# Altium schematic symbol library Inductors.SchLib: 19 symbols
Pins are listed as number, name and electrical type; pins without a type are passive.

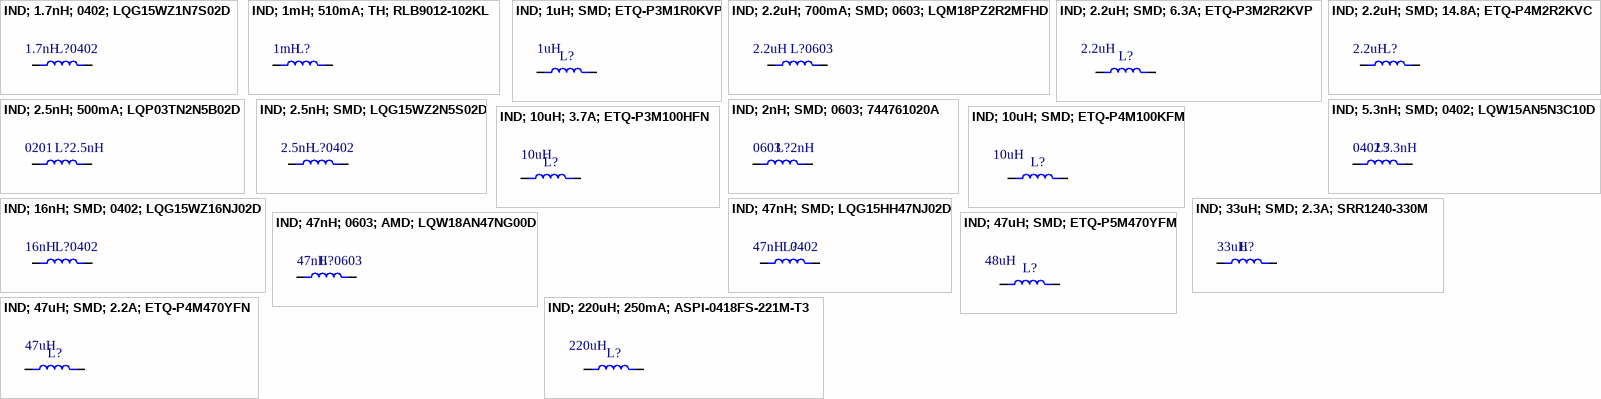
[diagram p0: symbols IND; 1.7nH; 0402; LQG15WZ1N7S02D to IND; 220uH; 250mA; ASPI-0418FS-221M-T3]

## IND; 1.7nH; 0402; LQG15WZ1N7S02D
designator L?, comment value 1.7nH  Package: 0402  (hidden comment: 1.7 nH Unshielded Multilayer Inductor 1 A 40mOhm Max 0402 (1005 Metric))
Inductor Chip 1.7nH 0.3nH Tolerance 2-Pin 0402 Paper T/R; Manufacturer: Murata; Manufacturer Part Number: LQG15WZ1N7S02D; DC Resistance (DCR): 40mR; Self Resonant Frequency: 10GHz; Test Frequency: 100MHz; Supplier: Mouser; Supplier Part Number: 81-LQG15WZ1N7S02D; RoHS: Yes; Category: Fixed Inductors; Stock: 8900; Pricing: 1=0.12, 10=0.078, 50=0.078, 100=0.061, 1000=0.048, 10000=0.04 (USD); Mounting Technology: Surface Mount; Case/Package: 0402; Min Operating Temperature: -55°C; Max Operating Temperature: 125°C; Series: LQG15; Shielding: Unshielded; Ratings: AEC-Q200; RoHS Compliant: Yes; ComponentLink1URL: https://search.murata.co.jp/Ceramy/image/img/P02/JELF243B-9117.pdf?src-supplier=Digikey; ComponentLink1Description: https://search.murata.co.jp/Ceramy/image/img/P02/JELF243B-9117.pdf?src-supplier=Digikey; ComponentLink2URL: https://datasheet.octopart.com/LQG15WZ1N7S02D-Murata-datasheet-150573548.pdf?src-supplier=Newark; ComponentLink2Description: https://datasheet.octopart.com/LQG15WZ1N7S02D-Murata-datasheet-150573548.pdf?src-supplier=Newark
footprint SMD-0402-HxLxW-0.55x1.0x0.5-ME
pins: 1, 2

## IND; 1mH; 510mA; TH; RLB9012-102KL
designator L?, comment value 1mH  (hidden comment: 1 mH Unshielded Drum Core, Wirewound Inductor 510 mA 2.9Ohm Max Radial, Vertical Cylinder)
Inductor Power Wirewound 1000uH 10% 1KHz 20Q-Factor Ferrite 0.51A 2.9Ohm DCR RDL Bag; Manufacturer: Bourns; Manufacturer Part Number: RLB9012-102KL; Q Factor: 20; Self Resonant Frequency: 1.3MHz; Max DC Current: 510mA; DC Resistance (DCR): 2.9R; Lead Diameter: 0.65mm; Designer: TVBac; Supplier: Digikey; Supplier Part Number: RLB9012-102KL-ND; RoHS: Yes; Category: Fixed Inductors; Stock: 114451; Pricing: 1=0.56, 10=0.436, 25=0.3944, 40=0.37475, 200=0.3138, 400=0.29065, 600=0.27787, 1000=0.26253, 2400=0.25613 (USD); Mounting Technology: Through Hole,Radial; Case/Package: Radial; Pins: 2; Core Material: Ferrite; Min Operating Temperature: -55°C; Max Operating Temperature: 125°C; Packaging: Bulk; Tolerance: 10%; Inductance Tolerance: 10%; Package Quantity: 200; Shielding: Unshielded; Termination: Radial; Test Frequency: 1kHz; RMS Current (Irms): 510mA; DC Current: 510mA; Lead/Base Style: Radial; Series: RLB9012; Diameter: 9mm; Height: 12.2mm; Lead Pitch: 5mm; Radiation Hardening: No; Reach SVHC Compliant: No; Military Standard: Not; RoHS Compliant: Yes; ComponentLink1URL: https://datasheet.ciiva.com/11797/0900766b80fa59a1-11797324.pdf?src-supplier=Rs; ComponentLink1Description: https://datasheet.ciiva.com/11797/0900766b80fa59a1-11797324.pdf?src-supplier=Rs; ComponentLink2URL: https://datasheet.ciiva.com/1071/rlb9012-1071294.pdf?src-supplier=Digikey; ComponentLink2Description: https://datasheet.ciiva.com/1071/rlb9012-1071294.pdf?src-supplier=Digikey; ComponentLink3URL: https://datasheet.ciiva.com/3077/rlb9012-3077232.pdf?src-supplier=Avnet; ComponentLink3Description: https://datasheet.ciiva.com/3077/rlb9012-3077232.pdf?src-supplier=Avnet; ComponentLink4URL: https://datasheet.ciiva.com/30249/rlb9012-30249013.pdf?src-supplier=Onlinecomponents.com; ComponentLink4Description: https://datasheet.ciiva.com/30249/rlb9012-30249013.pdf?src-supplier=Onlinecomponents.com; ComponentLink5URL: https://datasheet.ciiva.com/15225/getdatasheetpartid-707785-15225495.pdf?src-supplier=Verical; ComponentLink5Description: https://datasheet.ciiva.com/15225/getdatasheetpartid-707785-15225495.pdf?src-supplier=Verical; ComponentLink6Description: Link Digikey; ComponentLink6URL: https://www.digikey.com/en/products/detail/bourns-inc/RLB9012-102KL/1969616
footprint TH-IND-HxD-12.2x9.0-BI
pins: 1, 2

## IND; 1uH; SMD; ETQ-P3M1R0KVP
designator L?, comment value 1uH  (hidden comment: 1 µH Shielded Drum Core, Wirewound Inductor 9 A 10.56mOhm Max 2-SMD, J-Lead)
Ind Chip Power Choke Coil Shielded 1uH 20% 100KHz Metal 9A Emboss T/R; Manufacturer: Panasonic; Manufacturer Part Number: ETQ-P3M1R0KVP; RMS Current (Irms): 7.5A; Saturation Current: 14.1A; Designer: TVBac; Supplier: Newark; Supplier Part Number: 90Y9894; RoHS: Yes; Category: Inductors; Stock: 3929; Pricing: 10=0.63, 100=0.483, 500=0.439, 5000=0.382, 10000=0.356, 25000=0.27 (USD); Mounting Technology: Surface Mount; Packaging: Cut Tape; Inductance Tolerance: 20%; RoHS Compliant: Yes; Reach SVHC Compliant: Unknown; ComponentLink1URL: https://datasheet.octopart.com/ETQP3M1R0KVP-Panasonic-datasheet-81843036.pdf?src-supplier=Farnell; ComponentLink1Description: https://datasheet.octopart.com/ETQP3M1R0KVP-Panasonic-datasheet-81843036.pdf?src-supplier=Farnell; ComponentLink2URL: https://datasheet.octopart.com/ETQP3M1R0KVP-Panasonic-datasheet-66615529.pdf?src-supplier=Element14; ComponentLink2Description: https://datasheet.octopart.com/ETQP3M1R0KVP-Panasonic-datasheet-66615529.pdf?src-supplier=Element14; ComponentLink3URL: https://industrial.panasonic.com/cdbs/www-data/pdf/AGL0000/AGL0000C63.pdf?src-supplier=Digikey; ComponentLink3Description: https://industrial.panasonic.com/cdbs/www-data/pdf/AGL0000/AGL0000C63.pdf?src-supplier=Digikey; ComponentLink4URL: https://datasheet.octopart.com/ETQP3M1R0KVP-Panasonic-datasheet-136412728.pdf?src-supplier=Newark; ComponentLink4Description: https://datasheet.octopart.com/ETQP3M1R0KVP-Panasonic-datasheet-136412728.pdf?src-supplier=Newark; ComponentLink5URL: https://datasheet.octopart.com/ETQ-P3M1R0KVP-Panasonic-datasheet-65850535.pdf?src-supplier=Future+Electronics; ComponentLink5Description: https://datasheet.octopart.com/ETQ-P3M1R0KVP-Panasonic-datasheet-65850535.pdf?src-supplier=Future+Electronics; ComponentLink6URL: https://datasheet.octopart.com/ETQP3M1R0KVP-Panasonic-datasheet-137675050.pdf?src-supplier=TME; ComponentLink6Description: https://datasheet.octopart.com/ETQP3M1R0KVP-Panasonic-datasheet-137675050.pdf?src-supplier=TME; ComponentLink7Description: Link Digikey; ComponentLink7URL: https://www.digikey.com/en/products/detail/panasonic-electronic-components/ETQ-P3M1R0KVP/6150572
footprint SMD-HxLxW-3.0x5.5x5.0-PEC
pins: 1, 2

## IND; 2.2uH; 700mA; SMD; 0603; LQM18PZ2R2MFHD
designator L?, comment value 2.2uH  Package: 0603  (hidden comment: 2.2 µH Shielded Multilayer Inductor 700 mA 470mOhm Max 0603 (1608 Metric))
Inductor Power Chip Shielded Multi-Layer 2.2uH 20% 1MHz Ferrite 0.7A 0.47Ohm DCR 0603 Automotive T/R; Manufacturer: Murata; Manufacturer Part Number: LQM18PZ2R2MFHD; Core Material: Ferrite,Metal; Current Rating: 1.6A; Saturation Current: 300mA; DC Resistance (DCR): 470mR; Self Resonant Frequency: 80MHz; Supplier: Mouser; Supplier Part Number: 81-LQM18PZ2R2MFHD; RoHS: Yes; Category: Fixed Inductors; Stock: 9565; Pricing: 1=0.3, 10=0.194, 50=0.194, 100=0.14, 1000=0.138, 10000=0.093 (USD); Mounting Technology: Surface Mount; Case/Package: 0603; Case Code (Imperial): 0603; Case Code (Metric): 1608; Min Operating Temperature: -55°C; Max Operating Temperature: 125°C; Packaging: Cut Tape; Tolerance: 20%; Shielding: Shielded; Test Frequency: 1MHz; Series: LQM18; Ratings: AEC-Q200; RoHS Compliant: Yes; ComponentLink1URL: http://search.murata.co.jp/Ceramy/image/img/P02/JELF243B-9122.pdf?src-supplier=Digikey; ComponentLink1Description: http://search.murata.co.jp/Ceramy/image/img/P02/JELF243B-9122.pdf?src-supplier=Digikey
footprint SMD-0603-HxLxW-0.95x1.6x0.8-ME
pins: 1, 2

## IND; 2.2uH; SMD; 6.3A; ETQ-P3M2R2KVP
designator L?, comment value 2.2uH  (hidden comment: 2.2 µH Shielded Drum Core, Wirewound Inductor 6.3 A 22mOhm Max 2-SMD, J-Lead)
Ind Power Shielded Wirewound 2.2uH 20% 100KHz Metal 6.3A (5.5 X 5 X 3mm) Emboss T/R; Manufacturer: Panasonic; Manufacturer Part Number: ETQ-P3M2R2KVP; Core Material: Metal,Composite; RMS Current (Irms): 5.2A; Saturation Current: 10.1A; DC Resistance (DCR): 22mR; Designer: TVBac; Supplier: Digikey; Supplier Part Number: P19759CT-ND; RoHS: Yes; Category: Fixed Inductors; Stock: 6203; Pricing: 1=0.89, 10=0.752, 25=0.6836, 50=0.6426, 100=0.5333, 250=0.49224, 500=0.4649, 1000=0.42387 (USD); Mounting Technology: Surface Mount; Case/Package: SMD/SMT; Min Operating Temperature: -55°C; Max Operating Temperature: 155°C; Packaging: Cut Tape; Inductance Tolerance: 20%; Series: PCC-M0530M; Tolerance: 20%; Shielding: Shielded; Test Frequency: 100kHz; Ratings: AEC-Q200; RoHS Compliant: Yes; Reach SVHC Compliant: Unknown; ComponentLink1URL: http://www.farnell.com/datasheets/2820815.pdf?src-supplier=Farnell; ComponentLink1Description: http://www.farnell.com/datasheets/2820815.pdf?src-supplier=Farnell; ComponentLink2URL: https://industrial.panasonic.com/cdbs/www-data/pdf/AGL0000/AGL0000C63.pdf?src-supplier=Digikey; ComponentLink2Description: https://industrial.panasonic.com/cdbs/www-data/pdf/AGL0000/AGL0000C63.pdf?src-supplier=Digikey; ComponentLink3URL: http://www.farnell.com/datasheets/2820815.pdf?src-supplier=Newark; ComponentLink3Description: http://www.farnell.com/datasheets/2820815.pdf?src-supplier=Newark; ComponentLink4URL: https://datasheet.octopart.com/ETQP3M2R2KVP-Panasonic-datasheet-98950113.pdf?src-supplier=Newark; ComponentLink4Description: https://datasheet.octopart.com/ETQP3M2R2KVP-Panasonic-datasheet-98950113.pdf?src-supplier=Newark; ComponentLink5URL: http://www.farnell.com/datasheets/2144948.pdf?src-supplier=Element14; ComponentLink5Description: http://www.farnell.com/datasheets/2144948.pdf?src-supplier=Element14; ComponentLink6URL: https://datasheet.octopart.com/ETQP3M2R2KVP-Panasonic-datasheet-65850535.pdf?src-supplier=Future+Electronics; ComponentLink6Description: https://datasheet.octopart.com/ETQP3M2R2KVP-Panasonic-datasheet-65850535.pdf?src-supplier=Future+Electronics; ComponentLink7URL: https://datasheet.octopart.com/ETQP3M2R2KVP-Panasonic-datasheet-137675050.pdf?src-supplier=TME; ComponentLink7Description: https://datasheet.octopart.com/ETQP3M2R2KVP-Panasonic-datasheet-137675050.pdf?src-supplier=TME; ComponentLink8Description: Link Digikey; ComponentLink8URL: https://www.digikey.com/en/products/detail/panasonic-electronic-components/ETQ-P3M2R2KVP/6134777
footprint SMD-HxLxW-3.0x5.5x5.0-PEC
pins: 1, 2

## IND; 2.2uH; SMD; 14.8A; ETQ-P4M2R2KVC
designator L?, comment value 2.2uH  (hidden comment: 2.2 µH Shielded Drum Core, Wirewound Inductor 14.8 A 7.48mOhm Max 2-SMD, J-Lead)
Power Choke Shielded Wirewound 2.2uH 20% 100KHz Metal 14.8A 0.00748Ohm DCR Automotive T/R; Manufacturer: Panasonic; Manufacturer Part Number: ETQ-P4M2R2KVC; RMS Current (Irms): 12.1A; Saturation Current: 21A; Supplier: Mouser; Supplier Part Number: 667-ETQ-P4M2R2KVC; RoHS: Yes; Category: Fixed Inductors; Stock: 4988; Pricing: 1=0.84, 10=0.688, 50=0.6, 100=0.56, 1000=0.413, 10000=0.391 (USD); Mounting Technology: Surface Mount; Packaging: Cut Tape; Inductance Tolerance: 20%; RoHS Compliant: Yes; Reach SVHC Compliant: Unknown; ComponentLink1URL: https://media.digikey.com/pdf/Data%20Sheets/Panasonic%20Inductors%20Coils%20Filters%20PDFs/ETQ-P_Series_NPI.pdf?src-supplier=Digikey; ComponentLink1Description: https://media.digikey.com/pdf/Data%20Sheets/Panasonic%20Inductors%20Coils%20Filters%20PDFs/ETQ-P_Series_NPI.pdf?src-supplier=Digikey; ComponentLink2URL: http://www.farnell.com/datasheets/2144948.pdf?src-supplier=Element14; ComponentLink2Description: http://www.farnell.com/datasheets/2144948.pdf?src-supplier=Element14; ComponentLink3URL: https://datasheet.octopart.com/ETQP4M2R2KVC-Panasonic-datasheet-137675050.pdf?src-supplier=TME; ComponentLink3Description: https://datasheet.octopart.com/ETQP4M2R2KVC-Panasonic-datasheet-137675050.pdf?src-supplier=TME
footprint SMD-HxLxW-4.010.7x10-PEC
pins: 1, 2

## IND; 2.5nH; 500mA; LQP03TN2N5B02D
designator L?, comment value 2.5nH  Package: 0201  (hidden comment: 2.5 nH Unshielded Thick Film Inductor 500 mA 200mOhm Max 0201 (0603 Metric))
Inductor RF Chip Thin Film 2.5nH 0.1nH 500MHz 14Q-Factor 500mA 200mOhm DCR 0201 Paper T/R; Manufacturer: Murata; Manufacturer Part Number: LQP03TN2N5B02D; Supplier: Mouser; Supplier Part Number: 81-LQP03TN2N5B02D; RoHS: Yes; Category: Fixed Inductors; Stock: 37510; Pricing: 1=0.1, 10=0.033, 50=0.033, 100=0.026, 1000=0.02, 10000=0.017 (USD); ComponentLink1URL: https://media.digikey.com/pdf/Data%20Sheets/Murata%20PDFs/LQP03_Series_Br.pdf?src-supplier=Digikey; ComponentLink1Description: https://media.digikey.com/pdf/Data%20Sheets/Murata%20PDFs/LQP03_Series_Br.pdf?src-supplier=Digikey; ComponentLink2URL: http://components.arrow.com/part/dataview/49903479S8870270N2606?src-supplier=Arrow+Electronics; ComponentLink2Description: http://components.arrow.com/part/dataview/49903479S8870270N2606?src-supplier=Arrow+Electronics; ComponentLink3URL: http://www.mouser.com/ds/2/281/c51e-794816.pdf?src-supplier=Mouser; ComponentLink3Description: http://www.mouser.com/ds/2/281/c51e-794816.pdf?src-supplier=Mouser; ComponentLink4URL: https://search.murata.co.jp/Ceramy/image/img/P02/JELF243C-0015.pdf?src-supplier=Digikey; ComponentLink4Description: https://search.murata.co.jp/Ceramy/image/img/P02/JELF243C-0015.pdf?src-supplier=Digikey; ComponentLink5URL: http://search.murata.co.jp/Ceramy/image/img/w_hinm/S0084E.pdf?src-supplier=Digikey; ComponentLink5Description: http://search.murata.co.jp/Ceramy/image/img/w_hinm/S0084E.pdf?src-supplier=Digikey; ComponentLink6URL: http://psearch.en.murata.com/inductor/product/LQP03TN2N5B02%23.pdf?src-supplier=Avnet; ComponentLink6Description: http://psearch.en.murata.com/inductor/product/LQP03TN2N5B02%23.pdf?src-supplier=Avnet; ComponentLink7URL: https://datasheet.octopart.com/LQP03TN2N5B02D-Murata-datasheet-14391980.pdf?src-supplier=Future+Electronics; ComponentLink7Description: https://datasheet.octopart.com/LQP03TN2N5B02D-Murata-datasheet-14391980.pdf?src-supplier=Future+Electronics; ComponentLink8URL: https://datasheet.octopart.com/LQP03TN2N5B02D-Murata-datasheet-141404629.pdf?src-supplier=TME; ComponentLink8Description: https://datasheet.octopart.com/LQP03TN2N5B02D-Murata-datasheet-141404629.pdf?src-supplier=TME; ComponentLink9URL: https://datasheet.octopart.com/LQP03TN2N5B02D-Murata-datasheet-140569417.pdf?src-supplier=Arrow.cn; ComponentLink9Description: https://datasheet.octopart.com/LQP03TN2N5B02D-Murata-datasheet-140569417.pdf?src-supplier=Arrow.cn
footprint SMD-0201-HxLxW-0.33x0.6x0.3-ME
pins: 1, 2

## IND; 2.5nH; SMD; LQG15WZ2N5S02D
designator L?, comment value 2.5nH  Package: 0402  (hidden comment: 2.5 nH Unshielded Multilayer Inductor 900 mA 70mOhm Max 0402 (1005 Metric))
Inductor Chip 2.5nH 0.3nH Tolerance 2-Pin 0402 Paper T/R; Manufacturer: Murata; Manufacturer Part Number: LQG15WZ2N5S02D; DC Resistance (DCR): 70mR; Self Resonant Frequency: 6.5GHz; Test Frequency: 100MHz; Supplier: Mouser; Supplier Part Number: 81-LQG15WZ2N5S02D; RoHS: Yes; Category: Fixed Inductors; Stock: 10191; Pricing: 1=0.12, 10=0.078, 50=0.078, 100=0.061, 1000=0.056, 10000=0.04 (USD); Mounting Technology: Surface Mount; Case/Package: 0402; Min Operating Temperature: -55°C; Max Operating Temperature: 125°C; Series: LQG15; Shielding: Unshielded; Ratings: AEC-Q200; ComponentLink1URL: https://search.murata.co.jp/Ceramy/image/img/P02/JELF243B-9117.pdf?src-supplier=Digikey; ComponentLink1Description: https://search.murata.co.jp/Ceramy/image/img/P02/JELF243B-9117.pdf?src-supplier=Digikey; ComponentLink2URL: https://datasheet.octopart.com/LQG15WZ2N5S02D-Murata-datasheet-150573576.pdf?src-supplier=Newark; ComponentLink2Description: https://datasheet.octopart.com/LQG15WZ2N5S02D-Murata-datasheet-150573576.pdf?src-supplier=Newark
footprint SMD-0402-HxLxW-0.55x1.0x0.5-ME
pins: 1, 2

## IND; 2nH; SMD; 0603; 744761020A
designator L?, comment value 2nH  Package: 0603  (hidden comment: 2 nH Unshielded Drum Core, Wirewound Inductor 700 mA 80mOhm Max 0603 (1608 Metric))
WE-KI SMT Wire Wound Ceramic Inductor; Manufacturer: Wurth Electronics; Manufacturer Part Number: 744761020A; Q Factor: 16; Frequency: 250MHz; Self Resonant Frequency: 6.9GHz; Current Rating: 700mA; DC Resistance (DCR): 80mR; Supplier: Digikey; Supplier Part Number: 732-744761020ACT-ND; RoHS: Yes; Category: Fixed Inductors; Stock: 5587; Pricing: 1=0.27, 10=0.238, 100=0.2187, 500=0.1998, 1000=0.1854 (USD); Mounting Technology: Surface Mount; Case/Package: 0603; Pins: 2; Weight: 0.03g; Case Code (Metric): 1608; Case Code (Imperial): 0603; Material: Ceramic; Core Material: Ceramic; Min Operating Temperature: -40°C; Max Operating Temperature: 125°C; Packaging: Cut Tape; Max DC Current: 700mA; Test Frequency: 250MHz; ESR: 80mR; Series: WE-KI; Sample Rate (Hz): 250MHz; Shielding: Unshielded; Length: 1.6mm; Width: 1.05mm; Height: 1.05mm; Depth: 1.05mm; RoHS Compliant: Yes; Reach SVHC Compliant: Unknown; ComponentLink1URL: https://datasheet.ciiva.com/11803/0900766b80f8890c-11803546.pdf?src-supplier=Rs; ComponentLink1Description: https://datasheet.ciiva.com/11803/0900766b80f8890c-11803546.pdf?src-supplier=Rs; ComponentLink2URL: https://datasheet.ciiva.com/7695/426778-7695781.pdf?src-supplier=Element14; ComponentLink2Description: https://datasheet.ciiva.com/7695/426778-7695781.pdf?src-supplier=Element14
footprint SMD-0603-HxLxW-0.95x1.6x0.8-ME
pins: 1, 2

## IND; 5.3nH; SMD; 0402; LQW15AN5N3C10D
designator L?, comment value 5.3nH  Package: 0402  (hidden comment: 800mA 5.3nH 0402 Power Inductors ROHS)
Ind Chip Wirewound 5.3nH 0.2nH 0402 Paper T/R; Manufacturer: Murata; Manufacturer Part Number: LQW15AN5N3C10D; Supplier: Digikey; Supplier Part Number: 490-LQW15AN5N3C10DTR-ND; RoHS: Yes; Category: Fixed Inductors; Pricing: 10000=0.05758 (USD)
footprint SMD-0402-HxLxW-0.55x1.0x0.5-ME
pins: 1, 2

## IND; 10uH; 3.7A; ETQ-P3M100HFN
designator L?, comment value 10uH  (hidden comment: 10 µH Shielded Drum Core, Wirewound Inductor 3.7 A 74.8mOhm Max 2-SMD, J-Lead)
Power Choke Shielded Wirewound 10uH 20% 100KHz Metal 3.7A 0.0748Ohm DCR Automotive T/R; Manufacturer: Panasonic; Manufacturer Part Number: ETQ-P3M100HFN; Core Material: Metal,Composite; Saturation Current: 5.5A; DC Resistance (DCR): 74.8mR; Supplier: Mouser; Supplier Part Number: 667-ETQ-P3M100HFN; RoHS: No; Category: Fixed Inductors; Stock: 1835; Pricing: 1=1.11, 10=0.973, 50=0.756, 100=0.705, 1000=0.627, 10000=0.58 (USD); Mounting Technology: Surface Mount; Case/Package: SMD/SMT; Min Operating Temperature: -40°C; Max Operating Temperature: 150°C; Series: PCC-M0630M; Packaging: Cut Tape; Tolerance: 20%; Shielding: Shielded; Test Frequency: 100kHz; Ratings: AEC-Q200; ComponentLink1URL: http://datasheet.octopart.com/ETQ-P3M100HFN-Panasonic-datasheet-136768817.pdf?src-supplier=Rs; ComponentLink1Description: http://datasheet.octopart.com/ETQ-P3M100HFN-Panasonic-datasheet-136768817.pdf?src-supplier=Rs; ComponentLink2URL: https://datasheet.octopart.com/ETQP3M100HFN-Panasonic-datasheet-179054672.pdf?src-supplier=Farnell; ComponentLink2Description: https://datasheet.octopart.com/ETQP3M100HFN-Panasonic-datasheet-179054672.pdf?src-supplier=Farnell; ComponentLink3URL: http://datasheet.octopart.com/ETQ-P3M100HFN-Panasonic-datasheet-136768817.pdf?src-supplier=Verical; ComponentLink3Description: http://datasheet.octopart.com/ETQ-P3M100HFN-Panasonic-datasheet-136768817.pdf?src-supplier=Verical; ComponentLink4URL: http://datasheet.octopart.com/ETQ-P3M100HFN-Panasonic-datasheet-136768817.pdf?src-supplier=Onlinecomponents.com; ComponentLink4Description: http://datasheet.octopart.com/ETQ-P3M100HFN-Panasonic-datasheet-136768817.pdf?src-supplier=Onlinecomponents.com; ComponentLink5URL: http://datasheet.octopart.com/ETQ-P3M100HFN-Panasonic-datasheet-136768817.pdf?src-supplier=Arrow+Electronics; ComponentLink5Description: http://datasheet.octopart.com/ETQ-P3M100HFN-Panasonic-datasheet-136768817.pdf?src-supplier=Arrow+Electronics; ComponentLink6URL: http://datasheet.octopart.com/ETQ-P3M100HFN-Panasonic-datasheet-136768817.pdf?src-supplier=Avnet; ComponentLink6Description: http://datasheet.octopart.com/ETQ-P3M100HFN-Panasonic-datasheet-136768817.pdf?src-supplier=Avnet; ComponentLink7URL: http://datasheet.octopart.com/ETQ-P3M100HFN-Panasonic-datasheet-136768817.pdf?src-supplier=Future+Electronics; ComponentLink7Description: http://datasheet.octopart.com/ETQ-P3M100HFN-Panasonic-datasheet-136768817.pdf?src-supplier=Future+Electronics; ComponentLink8URL: https://datasheet.octopart.com/ETQP3M100HFN-Panasonic-datasheet-97125959.pdf?src-supplier=Element14; ComponentLink8Description: https://datasheet.octopart.com/ETQP3M100HFN-Panasonic-datasheet-97125959.pdf?src-supplier=Element14; ComponentLink9URL: http://datasheet.octopart.com/ETQ-P3M100HFN-Panasonic-datasheet-136768817.pdf?src-supplier=Digikey; ComponentLink9Description: http://datasheet.octopart.com/ETQ-P3M100HFN-Panasonic-datasheet-136768817.pdf?src-supplier=Digikey; ComponentLink10URL: http://datasheet.octopart.com/ETQ-P3M100HFN-Panasonic-datasheet-136768817.pdf?src-supplier=Newark; ComponentLink10Description: http://datasheet.octopart.com/ETQ-P3M100HFN-Panasonic-datasheet-136768817.pdf?src-supplier=Newark; ComponentLink11URL: http://datasheet.octopart.com/ETQ-P3M100HFN-Panasonic-datasheet-136768817.pdf?src-supplier=Mouser; ComponentLink11Description: http://datasheet.octopart.com/ETQ-P3M100HFN-Panasonic-datasheet-136768817.pdf?src-supplier=Mouser; ComponentLink12URL: https://datasheet.octopart.com/ETQ-P3M100HFN-Panasonic-datasheet-136768817.pdf?src-supplier=Newark; ComponentLink12Description: https://datasheet.octopart.com/ETQ-P3M100HFN-Panasonic-datasheet-136768817.pdf?src-supplier=Newark; ComponentLink13URL: http://datasheet.octopart.com/ETQ-P3M100HFN-Panasonic-datasheet-136768817.pdf?src-supplier=TTI; ComponentLink13Description: http://datasheet.octopart.com/ETQ-P3M100HFN-Panasonic-datasheet-136768817.pdf?src-supplier=TTI; ComponentLink14URL: http://datasheet.octopart.com/ETQ-P3M100HFN-Panasonic-datasheet-136768817.pdf?src-supplier=Electro+Sonic; ComponentLink14Description: http://datasheet.octopart.com/ETQ-P3M100HFN-Panasonic-datasheet-136768817.pdf?src-supplier=Electro+Sonic; ComponentLink15URL: http://datasheet.octopart.com/ETQ-P3M100HFN-Panasonic-datasheet-136768817.pdf?src-supplier=NAC+Semi; ComponentLink15Description: http://datasheet.octopart.com/ETQ-P3M100HFN-Panasonic-datasheet-136768817.pdf?src-supplier=NAC+Semi
footprint SMD-HxLxW-4.5x6.5x6.0-PEC
footprint SMD-HxLxW-4.5x6.4x6.0-PEC
pins: 1, 2

## IND; 10uH; SMD; ETQ-P4M100KFM
designator L?, comment value 10uH  (hidden comment: 10 µH Shielded Drum Core, Wirewound Inductor 6 A 39.6mOhm Max 2-SMD, J-Lead)
Ind Power Chip Shielded/Molded Wirewound 10uH 20% 100kHz Metal 6A (7.4 X 7 X 4.8mm) T/R; Manufacturer: Panasonic; Manufacturer Part Number: ETQ-P4M100KFM; Core Material: Metal,Composite; Saturation Current: 9.6A; DC Resistance (DCR): 39.6mR; Designer: TVBac; Supplier: Digikey; Supplier Part Number: P124167CT-ND; RoHS: No; Category: Fixed Inductors; Stock: 2527; Pricing: 1=0.98, 10=0.83, 25=0.7544, 50=0.7092, 100=0.5885, 250=0.54324 (USD); Mounting Technology: Surface Mount; Case/Package: Nonstandard; Min Operating Temperature: -40°C; Max Operating Temperature: 150°C; Series: PCC-M0748M-LE; Packaging: Cut Tape; Tolerance: 20%; Shielding: Shielded; Test Frequency: 100kHz; Ratings: AEC-Q200; ComponentLink1URL: https://industrial.panasonic.com/cdbs/www-data/pdf/AGL0000/AGL0000C73.pdf?src-supplier=Digikey; ComponentLink1Description: https://industrial.panasonic.com/cdbs/www-data/pdf/AGL0000/AGL0000C73.pdf?src-supplier=Digikey; ComponentLink2URL: https://datasheet.octopart.com/ETQ-P4M100KFM-Panasonic-datasheet-150570895.pdf?src-supplier=Future+Electronics; ComponentLink2Description: https://datasheet.octopart.com/ETQ-P4M100KFM-Panasonic-datasheet-150570895.pdf?src-supplier=Future+Electronics; ComponentLink3URL: https://datasheet.octopart.com/ETQ-P4M100KFM-Panasonic-datasheet-140259662.pdf?src-supplier=Newark; ComponentLink3Description: https://datasheet.octopart.com/ETQ-P4M100KFM-Panasonic-datasheet-140259662.pdf?src-supplier=Newark; ComponentLink4URL: https://datasheet.octopart.com/ETQP4M100KFM-Panasonic-datasheet-140259662.pdf?src-supplier=Newark; ComponentLink4Description: https://datasheet.octopart.com/ETQP4M100KFM-Panasonic-datasheet-140259662.pdf?src-supplier=Newark; ComponentLink5Description: Link Digikey; ComponentLink5URL: https://www.digikey.com/en/products/detail/panasonic-electronic-components/ETQ-P4M100KFM/9765163
footprint SMD-HxLxW-4.8x7.4x7.0-PEC
pins: 1, 2

## IND; 16nH; SMD; 0402; LQG15WZ16NJ02D
designator L?, comment value 16nH  Package: 0402  (hidden comment: 16 nH Unshielded Multilayer Inductor 260 mA 800mOhm Max 0402 (1005 Metric))
Inductor, 16Nh, 2.3Ghz, 0402 Rohs Compliant: Yes; Manufacturer: Murata; Manufacturer Part Number: LQG15WZ16NJ02D; Tolerance: 5%; DC Resistance (DCR): 800mR; Test Frequency: 100MHz; Supplier: Mouser; Supplier Part Number: 81-LQG15WZ16NJ02D; RoHS: Yes; Category: Fixed Inductors; Stock: 5019; Pricing: 1=0.1, 10=0.067, 50=0.067, 100=0.055, 1000=0.049, 10000=0.041 (USD); Mounting Technology: Surface Mount; Case/Package: 0402; Min Operating Temperature: -55°C; Max Operating Temperature: 125°C; Series: LQG15; Shielding: Unshielded; Self Resonant Frequency: 2.3GHz; Ratings: AEC-Q200; RoHS Compliant: Yes; ComponentLink1URL: https://search.murata.co.jp/Ceramy/image/img/P02/JELF243B-9117.pdf?src-supplier=Digikey; ComponentLink1Description: https://search.murata.co.jp/Ceramy/image/img/P02/JELF243B-9117.pdf?src-supplier=Digikey
footprint SMD-0402-HxLxW-0.55x1.0x0.5-ME
pins: 1, 2

## IND; 33uH; SMD; 2.3A; SRR1240-330M
designator L?, comment value 33uH  (hidden comment: 33 µH Shielded Drum Core, Wirewound Inductor 2.3 A 97mOhm Max Nonstandard)
Inductor Power Shielded Wirewound 33uH 20% 100KHz 19Q-Factor Ferrite 2.3A 0.097Ohm DCR T/R; Manufacturer: Bourns; Manufacturer Part Number: SRR1240-330M; Supplier: Avnet; Supplier Part Number: SRR1240-330M; RoHS: Yes; Category: Fixed Inductors; Stock: 1600; Pricing: 800=0.4248, 1600=0.38628, 3200=0.37962, 4800=0.37296, 6400=0.3663 (USD); ComponentLink1URL: https://datasheet.ciiva.com/3868/41848894s8818291n1506-3868048.pdf?src-supplier=Arrow+Electronics; ComponentLink1Description: https://datasheet.ciiva.com/3868/41848894s8818291n1506-3868048.pdf?src-supplier=Arrow+Electronics; ComponentLink2URL: https://datasheet.ciiva.com/17060/70277050-17060213.pdf?src-supplier=Allied+Electronics; ComponentLink2Description: https://datasheet.ciiva.com/17060/70277050-17060213.pdf?src-supplier=Allied+Electronics; ComponentLink3URL: https://datasheet.ciiva.com/7849/1481744-7849772.pdf?src-supplier=Element14; ComponentLink3Description: https://datasheet.ciiva.com/7849/1481744-7849772.pdf?src-supplier=Element14; ComponentLink4URL: https://datasheet.ciiva.com/7849/srr1240-7849773.pdf?src-supplier=Element14; ComponentLink4Description: https://datasheet.ciiva.com/7849/srr1240-7849773.pdf?src-supplier=Element14; ComponentLink5URL: https://datasheet.ciiva.com/48684/srr1240-48684860.pdf?src-supplier=Avnet; ComponentLink5Description: https://datasheet.ciiva.com/48684/srr1240-48684860.pdf?src-supplier=Avnet; ComponentLink6URL: https://datasheet.ciiva.com/8517/srr1240-8517103.pdf?src-supplier=Avnet; ComponentLink6Description: https://datasheet.ciiva.com/8517/srr1240-8517103.pdf?src-supplier=Avnet; ComponentLink7URL: https://datasheet.ciiva.com/1049/srr1240-1049972.pdf?src-supplier=Digikey; ComponentLink7Description: https://datasheet.ciiva.com/1049/srr1240-1049972.pdf?src-supplier=Digikey; ComponentLink8URL: https://datasheet.ciiva.com/1049/srr1240-1049973.pdf?src-supplier=Digikey; ComponentLink8Description: https://datasheet.ciiva.com/1049/srr1240-1049973.pdf?src-supplier=Digikey
footprint SMD-HxLxW-4.5x12.5x12.5-BI
pins: 1, 2

## IND; 47nH; 0603; AMD; LQW18AN47NG00D
designator L?, comment value 47nH  Package: 0603  (hidden comment: 47 nH Unshielded Drum Core, Wirewound Inductor 380 mA 290mOhm Max 0603 (1608 Metric))
Inductor RF Chip Wirewound 47nH 2% 100MHz 38Q-Factor 380mA 290mOhm DCR 0603 Paper T/R; Manufacturer: Murata; Manufacturer Part Number: LQW18AN47NG00D; Core Material: Non-Magnetic,Alumina; Q Factor: 38; Self Resonant Frequency: 2.6GHz; Current: 340mA; DC Resistance (DCR): 290mR; Supplier: Mouser; Supplier Part Number: 81-LQW18AN47NG00D; RoHS: Yes; Category: Fixed Inductors; Stock: 29631; Pricing: 1=0.12, 10=0.097, 50=0.097, 100=0.08, 1000=0.066, 10000=0.052 (USD); Mounting Technology: Surface Mount; Case/Package: 0603; Pins: 2; Weight: 0.000106oz; Case Code (Metric): 1608; Case Code (Imperial): 0603; Min Operating Temperature: -55°C; Max Operating Temperature: 125°C; Tolerance: 2%; Shielding: Unshielded; Packaging: Tape and Reel; Inductance Tolerance: 2%; Package Quantity: 1; Current Rating: 380mA; Max DC Current: 380mA; Termination: SMD/SMT; Test Frequency: 100MHz; DC Current: 380mA; ESR: 290mR; Series: LQW18A_00; Max Current Rating: 380mA; Length: 1.6mm; Width: 0.8mm; Height: 0.8mm; Height - Seated (Max): 0.039inch; Depth: 1mm; Radiation Hardening: No; Military Standard: Not; Lead Free: Lead Free; RoHS Compliant: Yes; Reach SVHC Compliant: Unknown; ComponentLink1URL: https://datasheet.ciiva.com/11800/0900766b80a002db-11800707.pdf?src-supplier=Rs; ComponentLink1Description: https://datasheet.ciiva.com/11800/0900766b80a002db-11800707.pdf?src-supplier=Rs; ComponentLink2URL: https://datasheet.ciiva.com/6705/l0075s0080lqw18a-00-6705614.pdf?src-supplier=Digikey; ComponentLink2Description: https://datasheet.ciiva.com/6705/l0075s0080lqw18a-00-6705614.pdf?src-supplier=Digikey; ComponentLink3URL: https://datasheet.ciiva.com/4976/product-4976583.pdf?src-supplier=Mouser; ComponentLink3Description: https://datasheet.ciiva.com/4976/product-4976583.pdf?src-supplier=Mouser; ComponentLink4URL: https://datasheet.ciiva.com/46391/1487239-46391851.pdf?src-supplier=Element14; ComponentLink4Description: https://datasheet.ciiva.com/46391/1487239-46391851.pdf?src-supplier=Element14; ComponentLink5URL: https://datasheet.ciiva.com/8508/l0075s0080lqw18a-00-8508446.pdf?src-supplier=Avnet; ComponentLink5Description: https://datasheet.ciiva.com/8508/l0075s0080lqw18a-00-8508446.pdf?src-supplier=Avnet; ComponentLink6URL: https://datasheet.ciiva.com/16390/l0075s0080lqw18a-00-16390357.pdf?src-supplier=Future+Electronics; ComponentLink6Description: https://datasheet.ciiva.com/16390/l0075s0080lqw18a-00-16390357.pdf?src-supplier=Future+Electronics; ComponentLink7URL: https://datasheet.ciiva.com/14124/qhlqw18a-data-e-14124623.pdf?src-supplier=Distrelec; ComponentLink7Description: https://datasheet.ciiva.com/14124/qhlqw18a-data-e-14124623.pdf?src-supplier=Distrelec; ComponentLink8URL: https://datasheet.ciiva.com/6705/l0075s0080lqw18a-00-6705613.pdf?src-supplier=Digikey; ComponentLink8Description: https://datasheet.ciiva.com/6705/l0075s0080lqw18a-00-6705613.pdf?src-supplier=Digikey; ComponentLink9URL: https://datasheet.ciiva.com/6705/l0075s0080lqw18a-00-6705615.pdf?src-supplier=Digikey; ComponentLink9Description: https://datasheet.ciiva.com/6705/l0075s0080lqw18a-00-6705615.pdf?src-supplier=Digikey
footprint SMD-0603-HxLxW-0.95x1.6x0.8-ME
pins: 1, 2

## IND; 47nH; SMD; LQG15HH47NJ02D
designator L?, comment value 47nH  Package: 0402  (hidden comment: 47 nH Unshielded Multilayer Inductor 300 mA 720mOhm Max 0402 (1005 Metric))
Ind RF Chip Multi-Layer 47nH 5% 100MHz 8Q-Factor Air 200mA 0402 Paper T/R; Manufacturer: Murata; Manufacturer Part Number: LQG15HH47NJ02D; Self Resonant Frequency: 1GHz; DC Resistance (DCR): 720mR; Q Factor: 8; Supplier: Mouser; Supplier Part Number: 81-LQG15HH47NJ02D; RoHS: Yes; Category: Fixed Inductors; Stock: 8247; Pricing: 1=0.16, 10=0.109, 50=0.109, 100=0.085, 1000=0.065, 10000=0.054 (USD); Mounting Technology: Surface Mount; Case/Package: 0402; Core Material: Air; Case Code (Metric): 1005; Case Code (Imperial): 0402; Min Operating Temperature: -55°C; Max Operating Temperature: 125°C; Packaging: Tape and Reel; Tolerance: 5%; Package Quantity: 10000; Shielding: Unshielded; Current Rating: 200mA; Test Frequency: 100MHz; Max DC Current: 200mA; Termination: SMD/SMT; Series: LQG15HS; Length: 0.039inch; Width: 0.02inch; Height: 0.5mm; Height - Seated (Max): 0.022inch; Ratings: AEC-Q200; RoHS Compliant: Yes; ComponentLink1URL: https://datasheet.ciiva.com/4977/o05e-4977547.pdf?src-supplier=Mouser; ComponentLink1Description: https://datasheet.ciiva.com/4977/o05e-4977547.pdf?src-supplier=Mouser; ComponentLink2URL: https://datasheet.ciiva.com/8509/l0080s0142lqg15h-8509786.pdf?src-supplier=Avnet; ComponentLink2Description: https://datasheet.ciiva.com/8509/l0080s0142lqg15h-8509786.pdf?src-supplier=Avnet
footprint SMD-0402-HxLxW-0.55x1.0x0.5-ME
pins: 1, 2

## IND; 47uH; SMD; 2.2A; ETQ-P4M470YFN
designator L?, comment value 47uH  (hidden comment: 47 µH Shielded Drum Core, Wirewound Inductor 2.2 A 231mOhm Max 2-SMD, J-Lead)
2.2A 47uH Integrated molded inductor ±20% 3.8A SMD, 6.5x6mm Power Inductors ROHS; Manufacturer: Panasonic; Manufacturer Part Number: ETQ-P4M470YFN; Core Material: Metal,Composite; DC Resistance (DCR): 231mR; Test Frequency: 100kHz; Designer: TVBac; Supplier: Newark; Supplier Part Number: 41AC9914; RoHS: Yes; Category: Inductors; Stock: 11; Pricing: 1=1.29, 10=0.944, 100=0.722, 500=0.669, 1000=0.574 (USD); Mounting Technology: Surface Mount; Case/Package: SMD/SMT; Min Operating Temperature: -40°C; Max Operating Temperature: 150°C; Packaging: Cut Tape; Saturation Current: 3.8A; Shielding: Shielded; Tolerance: 20%; Series: PCC-M0645M; Inductance Tolerance: 20%; Ratings: AEC-Q200; RoHS Compliant: Yes; ComponentLink1URL: https://datasheet.octopart.com/ETQP4M470YFN-Panasonic-datasheet-136612417.pdf?src-supplier=Farnell; ComponentLink1Description: https://datasheet.octopart.com/ETQP4M470YFN-Panasonic-datasheet-136612417.pdf?src-supplier=Farnell; ComponentLink2URL: https://datasheet.octopart.com/ETQ-P4M470YFN-Panasonic-datasheet-97125960.pdf?src-supplier=Future+Electronics; ComponentLink2Description: https://datasheet.octopart.com/ETQ-P4M470YFN-Panasonic-datasheet-97125960.pdf?src-supplier=Future+Electronics; ComponentLink3URL: https://industrial.panasonic.com/cdbs/www-data/pdf/AGL0000/AGL0000C59.pdf?src-supplier=Digikey; ComponentLink3Description: https://industrial.panasonic.com/cdbs/www-data/pdf/AGL0000/AGL0000C59.pdf?src-supplier=Digikey; ComponentLink4URL: https://datasheet.octopart.com/ETQ-P4M470YFN-Panasonic-datasheet-140363995.pdf?src-supplier=Master+Electronics; ComponentLink4Description: https://datasheet.octopart.com/ETQ-P4M470YFN-Panasonic-datasheet-140363995.pdf?src-supplier=Master+Electronics; ComponentLink5URL: https://datasheet.octopart.com/ETQP4M470YFN-Panasonic-datasheet-156876476.pdf?src-supplier=TME; ComponentLink5Description: https://datasheet.octopart.com/ETQP4M470YFN-Panasonic-datasheet-156876476.pdf?src-supplier=TME; ComponentLink6Description: Link Digikey; ComponentLink6URL: https://www.digikey.com/en/products/detail/panasonic-electronic-components/ETQ-P4M470YFN/5155663
footprint SMD-HxLxW-4.5x6.5x6.0-PEC
pins: 1, 2

## IND; 47uH; SMD; ETQ-P5M470YFM
designator L?, comment value 48uH  (hidden comment: 47 µH Shielded Drum Core, Wirewound Inductor 2.9 A 172mOhm Max 2-SMD, J-Lead)
Power Choke Shielded Wirewound 48uH 20% 100KHz Metal 2.9A 0.172Ohm DCR Automotive T/R; Manufacturer: Panasonic; Manufacturer Part Number: ETQ-P5M470YFM; Core Material: Metal,Composite; Current Rating: 1A; DC Resistance (DCR): 172mR; Current: 19A; RMS Current (Irms): 2.3A; Saturation Current: 4.1A; ESR: 156mR; Designer: TVBac; Supplier: Digikey; Supplier Part Number: PCD2319CT-ND; RoHS: Yes; Category: Fixed Inductors; Stock: 9294; Pricing: 1=1.34, 10=1.134, 25=1.0312, 50=0.9694, 100=0.8044, 250=0.74252 (USD); Mounting Technology: Surface Mount; Case/Package: SMD/SMT; Min Operating Temperature: -40°C; Max Operating Temperature: 150°C; Package Quantity: 1; Tolerance: 20%; Shielding: Shielded; Packaging: Tape and Reel; Inductance Tolerance: 20%; Max DC Current: 1A; Termination: SMD/SMT; Test Frequency: 100kHz; Series: PCC-D126H (NX3); Length: 7.5mm; Width: 7mm; Height: 5.4mm; Depth: 7mm; Ratings: AEC-Q200; Reach SVHC Compliant: No; Military Standard: Not; Lead Free: Lead Free; RoHS Compliant: Yes; ComponentLink1URL: https://datasheet.ciiva.com/11799/0900766b80befc95-11799793.pdf?src-supplier=Rs; ComponentLink1Description: https://datasheet.ciiva.com/11799/0900766b80befc95-11799793.pdf?src-supplier=Rs; ComponentLink2URL: https://datasheet.ciiva.com/43455/1499752-43455067.pdf?src-supplier=Farnell; ComponentLink2Description: https://datasheet.ciiva.com/43455/1499752-43455067.pdf?src-supplier=Farnell; ComponentLink3URL: https://datasheet.ciiva.com/46413/1499752-46413756.pdf?src-supplier=Element14; ComponentLink3Description: https://datasheet.ciiva.com/46413/1499752-46413756.pdf?src-supplier=Element14; ComponentLink4URL: https://datasheet.ciiva.com/6042/1499752-6042024.pdf?src-supplier=Farnell; ComponentLink4Description: https://datasheet.ciiva.com/6042/1499752-6042024.pdf?src-supplier=Farnell; ComponentLink5URL: https://datasheet.ciiva.com/3084/agl0000ce9-3084043.pdf?src-supplier=Avnet; ComponentLink5Description: https://datasheet.ciiva.com/3084/agl0000ce9-3084043.pdf?src-supplier=Avnet; ComponentLink6Description: Link Digikey; ComponentLink6URL: https://www.digikey.com/en/products/detail/panasonic-electronic-components/ETQ-P5M470YFM/1995254
footprint SMD-HxLxW-5.4x7.5x7.0-PEC
pins: 1, 2

## IND; 220uH; 250mA; ASPI-0418FS-221M-T3
designator L?, comment value 220uH  (hidden comment: 220 µH Shielded Drum Core, Wirewound Inductor 250 mA 3.84Ohm Max Nonstandard)
Power Inductor (SMD), 220 uH, ± 20%, 250 mA, Shielded, 330 mA, 4mm x 4mm x 1.8mm; Manufacturer: Abracon; Manufacturer Part Number: ASPI-0418FS-221M-T3; Designer: TVBac; Supplier: Mouser; Supplier Part Number: 815-ASPI0418FS221MT3; RoHS: No; Category: Fixed Inductors; Stock: 2874; Pricing: 1=0.36, 10=0.234, 50=0.234, 100=0.182, 1000=0.163, 10000=0.127 (USD); ComponentLink1URL: https://abracon.com/Magnetics/new/ASPI-0418FS.pdf?src-supplier=Digikey; ComponentLink1Description: https://abracon.com/Magnetics/new/ASPI-0418FS.pdf?src-supplier=Digikey; ComponentLink2Description: Link Digikey; ComponentLink2URL: https://www.digikey.com/en/products/detail/abracon-llc/ASPI-0418FS-221M-T3/10273501
footprint SMD-HxLxW-1.8x4.0x4.0-ALLC
pins: 1, 2